# EAGLE library part GY-86 (library quadcopter_comp)
10 DoF breakout board. Combined MPU6050, HMC5883L and MS5611
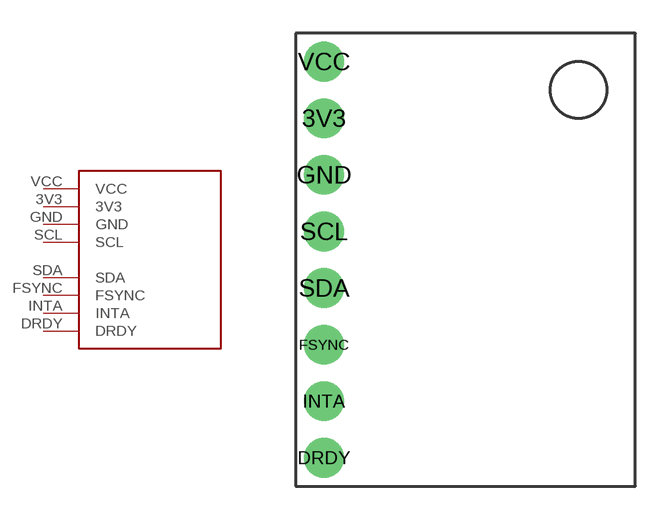
[diagram p11: symbol with the pads of GY-86; footprint GY-86]

Designator prefix -

## GY-86  [GY-86]
3V3  3V3
DRDY  DRDY
FSYNC  FSYNC
GND  GND
INTA  INTA
SCL  SCL
SDA  SDA
VCC  VCC

## Footprint GY-86 (pad centres in mm)
drill 0.8 pad 1.778: 3V3 -6.35,6.35; DRDY -6.35,-8.89; FSYNC -6.35,-3.81; GND -6.35,3.81; INTA -6.35,-6.35; SCL -6.35,1.27; SDA -6.35,-1.27; VCC -6.35,8.89